# Altium schematic symbol library ERJ-3EKF1372V.SchLib: 1 symbol
Pins are listed as number, name and electrical type; pins without a type are passive.

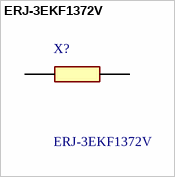
[diagram p0: symbol ERJ-3EKF1372V]

## ERJ-3EKF1372V
designator X?
Precision Thick Film Chip Resistor, 0603, 0.1W; Manufacturer_Name: Panasonic; Geometry.Height: 0.55mm; Mouser Part Number: 667-ERJ-3EKF1372V; Mouser Price/Stock: https://www.mouser.co.uk/ProductDetail/Panasonic/ERJ-3EKF1372V?qs=H7k1u0Mp9JQD7E9NX1VlCQ%3D%3D; Manufacturer_Part_Number: ERJ-3EKF1372V; Datasheet Link: http://industrial.panasonic.com/cdbs/www-data/pdf/RDA0000/AOA0000C86.pdf
footprint RESC1608X55N
pins: 1, 2